# Altium footprint library Sensor Package.PcbLib: 119 footprints (part 2 of 8)
Each footprint in its own frame and in the unit in brackets; x right, y up, seen from the top. Pads: shape width x height; smd on the part's side, far side on the other; paste and mask are expansions set on the pad; w line width, h text height; cw(c..) or ccw(c..) is an arc to the next point about the centre after c.
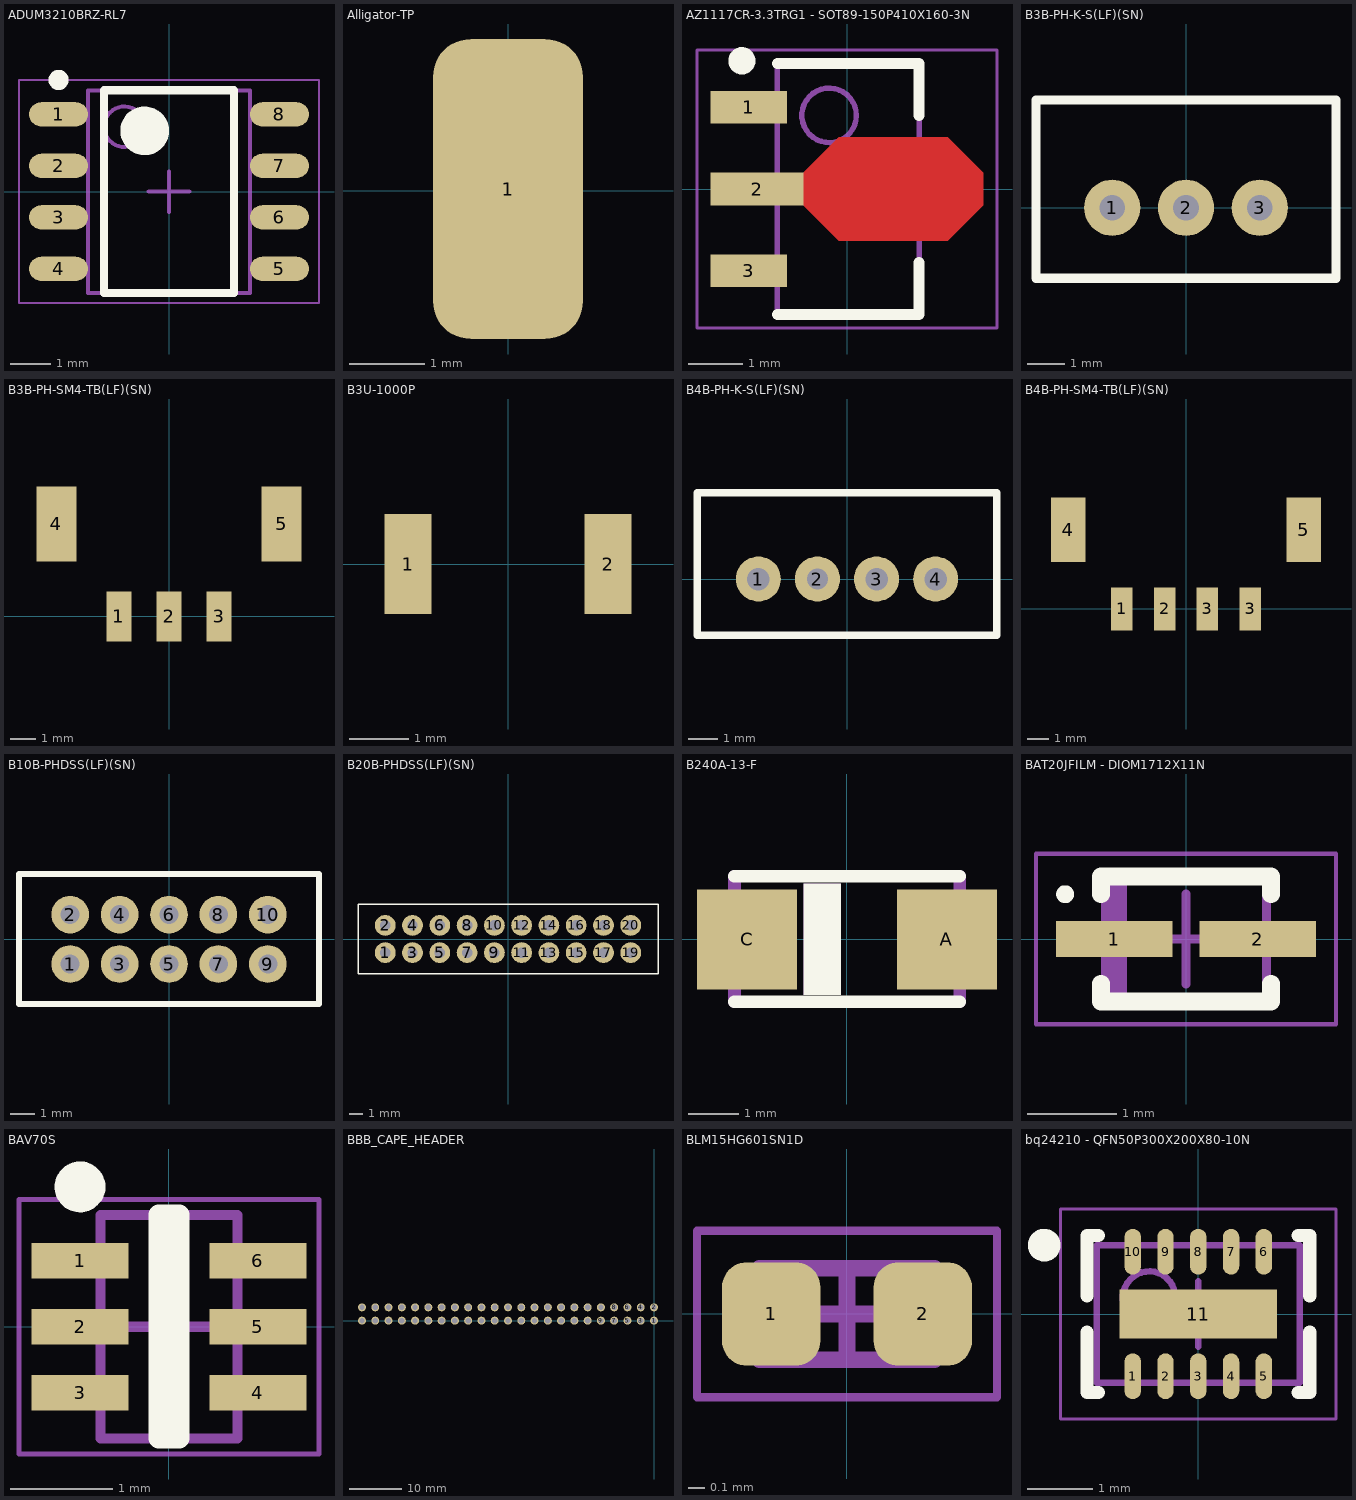
[diagram p1: the footprints below, top view; thin cyan lines are the x and y axes]

## ADUM3210BRZ-RL7 [mm] "SOIC, 8-Leads, Body 4.90x3.90mm, Pitch 1.27mm, IPC Medium Density"
height 1.75
pads (8):
  oval 1.45x0.6 smd: 1(-2.725,1.905) 2(-2.725,0.635) 3(-2.725,-0.635) 4(-2.725,-1.905) 5(2.725,-1.905) 6(2.725,-0.635) 7(2.725,0.635) 8(2.725,1.905)
Top Overlay:
  circle w0.6: c-0.6,1.5 r0.3
  circle w0.25: c-2.725,2.755 r0.125
  lines w0.2: -1.6,-2.5 1.6,-2.5 1.6,2.5 -1.6,2.5 -1.6,-2.5
Mechanical 13:
  circle w0.1: c-1.1,1.6 r0.5
  lines w0.1: -2,-2.5 2,-2.5 2,2.5 -2,2.5 -2,-2.5
Mechanical 15:
  lines w0.05: -3.7,-2.75 3.7,-2.75 3.7,2.75 -3.7,2.75 -3.7,-2.75
  lines w0.1: -0.5,0 0.5,0 ; 0,-0.5 0,0.5
3D body: height 1.75, standoff 0.1, extent -2,-2.5 2,2.5

## Alligator-TP [mm]
pads (1):
  rrect50% 2x4 smd: 1(0,0.025)

## AZ1117CR-3.3TRG1 - SOT89-150P410X160-3N [mm] "SOT89, 3-Leads, Body 4.50x2.45mm, Pitch 1.50mm, Lead Span 4.1mm, IPC Medium Density"
height 1.6
pads (3):
  rect 1.4x0.6 smd: 1(-1.8,1.5) 3(-1.8,-1.5)
  rect 1.7x0.6 smd: 2(-1.65,0)
Top Layer:
  region: -0.8,0.3 -0.15,0.95 1.85,0.95 2.5,0.3 2.5,-0.3 1.85,-0.95 -0.15,-0.95 -0.8,-0.3
Top Overlay:
  circle w0.25: c-1.928,2.35 r0.125
  lines w0.2: -1.278,-2.3 1.322,-2.3 1.322,-1.35 ; -1.278,2.3 1.322,2.3 1.322,1.35
Mechanical 13:
  circle w0.1: c-0.327,1.35 r0.5
  lines w0.1: -1.278,-2.3 1.322,-2.3 1.322,2.3 -1.278,2.3 -1.278,-2.3
Mechanical 15:
  lines w0.05: -2.75,-2.55 2.75,-2.55 2.75,2.55 -2.75,2.55 -2.75,-2.55
  lines w0.1: -0.478,0 0.522,0 ; 0.022,-0.5 0.022,0.5
3D body: height 1.6, standoff 0, extent -1.278,-2.3 1.322,2.3

## B3B-PH-K-S(LF)(SN) [mil] "B3B-PH-K-S(LF)(SN)"
pads (3):
  round 60 hole 27.56: 1(-78.74,0) 2(0,0) 3(78.74,0)
Top Overlay:
  lines w10: -160,-75 160,-75 160,-70 160,115 -160,115 -160,-75
3D body "B3B-PH-K-S.STEP": height 236.22, standoff -133.86, extent -155.51,-67.16 155.51,110

## B3B-PH-SM4-TB(LF)(SN) [mm] "3 pin SMT connector"
pads (5):
  rect 1x2 smd: 1(-2,0) 2(0,0) 3(2,0)
  rect 1.6x3 smd: 4(-4.5,3.7) 5(4.5,3.7)
3D body "B3B-PH-SM4-TB.STEP": height 6.6, standoff 0, extent -4.975,-0.762 4.975,6.238

## B3U-1000P [mm] "Tactile Switch    B3U-1000P"
pads (2):
  rect 0.8x1.7 smd: 1(-1.7,0) 2(1.7,0)
3D body "B3U_1000P[].step": height 1.6, standoff 0, extent -2,-1.25 2,1.25

## B4B-PH-K-S(LF)(SN) [mil] "B4B-PH-K-S(LF)(SN)"
pads (4):
  round 60 hole 30: 1(-118.11,0) 3(39.37,0) 4(118.11,0)
  round 60 hole 27.56: 2(-39.37,0)
Top Overlay:
  lines w10: -200,-75 -200,115 200,115 200,-75 -200,-75
3D body "B4B-PH-K-S.STEP": height 236.22, standoff -133.86, extent -194.88,-67.16 194.88,110

## B4B-PH-SM4-TB(LF)(SN) [mm]
pads (6):
  rect 1x2 smd: 1(-3,0) 2(-1,0) 3(1,0) 3(3,0)
  rect 1.6x3 smd: 4(-5.5,3.7) 5(5.5,3.7)
3D body "B4B-PH-SM4-TB.STEP": height 6.6, standoff 0, extent -5.975,-0.777 5.975,6.223

## B10B-PHDSS(LF)(SN) [mil] "10 Positions Header, Shrouded Connector 0.079\" (2.00mm) Through Hole Tin"
height 338.58
pads (10):
  round 60 hole 30: 1(-157.48,-39.37) 2(-157.48,39.37) 3(-78.74,-39.37) 4(-78.74,39.37) 5(0,-39.37) 6(0,39.37) 7(78.74,-39.37) 8(78.74,39.37) 9(157.48,-39.37) 10(157.48,39.37)
Top Overlay:
  lines w10: -239,-103 -239,104 239,104 239,-103 -239,-103
3D body "B10B-PHDSS.STEP": height 255.91, standoff -118.11, extent -234.24,-98.42 234.26,98.43

## B20B-PHDSS(LF)(SN) [mil] "20 Pin 2mm Pitch Throughhole shrouded Male Pin Connector"
height 338.58
pads (20):
  round 60 hole 30: 1(-354.33,-39.37) 2(-354.33,39.37) 3(-275.59,-39.37) 4(-275.59,39.37) 5(-196.85,-39.37) 6(-196.85,39.37) 7(-118.11,-39.37) 8(-118.11,39.37) 9(-39.37,-39.37) 10(-39.37,39.37) 11(39.37,-39.37) 12(39.37,39.37) 13(118.11,-39.37) 14(118.11,39.37) 15(196.85,-39.37) 16(196.85,39.37) 17(275.59,-39.37) 18(275.59,39.37) 19(354.33,-39.37) 20(354.33,39.37)
Top Overlay:
  lines w3.94: -433,-101 -433,101 433,101 433,-101 -433,-101
3D body "B20B-PHDSS.STEP": height 255.91, standoff -118.11, extent -431.1,-98.42 431.11,98.43

## B240A-13-F [mil]
pads (2):
  rect 79x79 smd: A(79,0) C(-78.74,0)
Top Overlay:
  rectangle: -34.06,-43.9 -4.53,44
  lines w10: -88.58,-49.21 89,-49.21 ; -88.58,50 89,50
Mechanical 8:
  rectangle: 94,-32.48 111,32
  rectangle: -110.24,-31.5 -93.7,32
  rectangle: -34.06,-43.9 -4.53,44
  lines w10: -88.58,-49.21 -88.58,50 ; 89,-49.21 89,50
3D body: height 116.14, standoff 0, extent -93.58,-54.21 94,55
3D body: height 78.74, standoff 0, extent -105,-40 105,40

## BAT20JFILM - DIOM1712X11N [mm] "Molded Diode, 2-Leads, Body 1.66x1.23mm, IPC Medium Density"
height 1.13
pads (2):
  rect 1.3x0.4 smd: 1(-0.8,0) 2(0.8,0)
Top Overlay:
  circle w0.1: c-1.35,0.5 r0.05
  lines w0.2: -0.95,-0.5 -0.95,-0.7 0.95,-0.7 0.95,-0.5 ; -0.95,0.5 -0.95,0.7 0.95,0.7 0.95,0.5
Mechanical 13:
  rectangle: -0.9,-0.675 -0.658,0.675
  lines w0.1: -0.9,-0.675 0.9,-0.675 0.9,0.675 -0.9,0.675 -0.9,-0.675
Mechanical 15:
  lines w0.05: -1.675,-0.95 1.675,-0.95 1.675,0.95 -1.675,0.95 -1.675,-0.95
  lines w0.1: -0.5,0 0.5,0 ; 0,-0.5 0,0.5
3D body: height 1.13, standoff 0, extent -0.9,-0.675 0.9,0.675

## BAV70S [mm] "SOTFL, 6-Leads, Body 2.00x2.10mm, Pitch 0.65mm, IPC Medium Density"
height 1.1
pads (6):
  rect 0.95x0.35 smd: 1(-0.875,0.65) 2(-0.875,0) 3(-0.875,-0.65) 4(0.875,-0.65) 5(0.875,0) 6(0.875,0.65)
Top Overlay:
  circle w0.25: c-0.875,1.375 r0.125
  lines w0.2: -0.1,-1.1 -0.1,1.1 0.1,1.1 0.1,-1.1 -0.1,-1.1
Mechanical 13:
  lines w0.1: -0.675,-1.1 0.675,-1.1 0.675,1.1 -0.675,1.1 -0.675,-1.1
Mechanical 15:
  lines w0.05: -1.475,-1.25 1.475,-1.25 1.475,1.25 -1.475,1.25 -1.475,-1.25
  lines w0.1: -0.5,0 0.5,0 ; 0,-0.5 0,0.5
3D body: height 1.1, standoff 0, extent -0.675,-1.1 0.675,1.1

## BBB_CAPE_HEADER [mil] "46-pin male header for BeagleBone Black P8,P9"
pads (46):
  round 60 hole 40: 1(0,0) 2(0,100) 3(-100,0) 4(-100,100) 5(-200,0) 6(-200,100) 7(-300,0) 8(-300,100) 9(-400,0) 10(-400,100) 11(-500,0) 12(-500,100) 13(-600,0) 14(-600,100) 15(-700,0) 16(-700,100) 17(-800,0) 18(-800,100) 19(-900,0) 20(-900,100) 21(-1000,0) 22(-1000,100) 23(-1100,0) 24(-1100,100) 25(-1200,0) 26(-1200,100) 27(-1300,0) 28(-1300,100) 29(-1400,0) 30(-1400,100) 31(-1500,0) 32(-1500,100) 33(-1600,0) 34(-1600,100) 35(-1700,0) 36(-1700,100) 37(-1800,0) 38(-1800,100) 39(-1900,0) 40(-1900,100) 41(-2000,0) 42(-2000,100) 43(-2100,0) 44(-2100,100) 45(-2200,0) 46(-2200,100)
3D body "c-87224-2-l-3d.stp": height 408.48, standoff -124.52, extent -46,-42 46,142
3D body "c-87224-2-l-3d.stp": height 408.48, standoff -124.52, extent -146,-42 -54,142
3D body "c-87224-2-l-3d.stp": height 408.48, standoff -124.52, extent -346,-42 -254,142
3D body "c-87224-2-l-3d.stp": height 408.48, standoff -124.52, extent -246,-42 -154,142
3D body "c-87224-2-l-3d.stp": height 408.48, standoff -124.52, extent -546,-42 -454,142
3D body "c-87224-2-l-3d.stp": height 408.48, standoff -124.52, extent -446,-42 -354,142
3D body "c-87224-2-l-3d.stp": height 408.48, standoff -124.52, extent -746,-42 -654,142
3D body "c-87224-2-l-3d.stp": height 408.48, standoff -124.52, extent -646,-42 -554,142
3D body "c-87224-2-l-3d.stp": height 408.48, standoff -124.52, extent -946,-42 -854,142
3D body "c-87224-2-l-3d.stp": height 408.48, standoff -124.52, extent -846,-42 -754,142
3D body "c-87224-2-l-3d.stp": height 408.48, standoff -124.52, extent -1146,-42 -1054,142
3D body "c-87224-2-l-3d.stp": height 408.48, standoff -124.52, extent -1046,-42 -954,142
3D body "c-87224-2-l-3d.stp": height 408.48, standoff -124.52, extent -1346,-42 -1254,142
3D body "c-87224-2-l-3d.stp": height 408.48, standoff -124.52, extent -1246,-42 -1154,142
3D body "c-87224-2-l-3d.stp": height 408.48, standoff -124.52, extent -1546,-42 -1454,142
3D body "c-87224-2-l-3d.stp": height 408.48, standoff -124.52, extent -1446,-42 -1354,142
3D body "c-87224-2-l-3d.stp": height 408.48, standoff -124.52, extent -1746,-42 -1654,142
3D body "c-87224-2-l-3d.stp": height 408.48, standoff -124.52, extent -1646,-42 -1554,142
3D body "c-87224-2-l-3d.stp": height 408.48, standoff -124.52, extent -1946,-42 -1854,142
3D body "c-87224-2-l-3d.stp": height 408.48, standoff -124.52, extent -1846,-42 -1754,142
3D body "c-87224-2-l-3d.stp": height 408.48, standoff -124.52, extent -2146,-42 -2054,142
3D body "c-87224-2-l-3d.stp": height 408.48, standoff -124.52, extent -2046,-42 -1954,142
3D body "c-87224-2-l-3d.stp": height 408.48, standoff -124.52, extent -2246,-42 -2154,142

## BLM15HG601SN1D [mm] "Chip Inductor, 2-Leads, Body 1.00x0.50mm, IPC Medium Density"
height 0.8
pads (2):
  rrect50% 0.59x0.62 smd: 1(-0.455,0) 2(0.455,0)
Mechanical 13:
  lines w0.1: -0.525,-0.275 0.525,-0.275 0.525,0.275 -0.525,0.275 -0.525,-0.275
Mechanical 15:
  lines w0.05: -0.9,-0.5 0.9,-0.5 0.9,0.5 -0.9,0.5 -0.9,-0.5
  lines w0.1: -0.275,0 0.275,0 ; 0,-0.275 0,0.275
3D body: height 0.8, standoff 0, extent 0.275,-0.275 0.525,0.275
3D body: height 0.8, standoff 0, extent -0.525,-0.275 -0.275,0.275
3D body: height 0.8, standoff 0, extent -0.275,-0.275 0.275,0.275

## bq24210 - QFN50P300X200X80-10N [mm] "QFN, 10-Leads, Body 3.00x2.00mm, Pitch 0.50mm, IPC Medium Density"
height 0.8
pads (11):
  oval 0.25x0.7 smd: 1(-1,-0.95) 2(-0.5,-0.95) 3(0,-0.95) 4(0.5,-0.95) 5(1,-0.95) 6(1,0.95) 7(0.5,0.95) 8(0,0.95) 9(-0.5,0.95) 10(-1,0.95)
  rect 2.4x0.75 smd: 11(0,0)
Top Overlay:
  circle w0.25: c-2.35,1.05 r0.125
  lines w0.2: -1.7,-0.275 -1.7,-1.2 -1.525,-1.2 ; -1.7,0.275 -1.7,1.2 -1.525,1.2 ; 1.525,-1.2 1.7,-1.2 1.7,-0.275 ; 1.525,1.2 1.7,1.2 1.7,0.275
Mechanical 13:
  circle w0.1: c-0.75,0.25 r0.4
  lines w0.1: -1.55,-1.05 1.55,-1.05 1.55,1.05 -1.55,1.05 -1.55,-1.05
Mechanical 15:
  lines w0.05: -2.1,-1.6 2.1,-1.6 2.1,1.6 -2.1,1.6 -2.1,-1.6
  lines w0.1: -0.5,0 0.5,0 ; 0,-0.5 0,0.5
3D body: height 0.8, standoff 0.02, extent -1.55,-1.05 1.55,1.05